# Altium schematic symbol library LT1054IDW.Schlib: 1 symbol
Pins are listed as number, name and electrical type; pins without a type are passive.

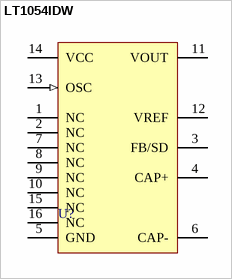
[diagram p0: symbol LT1054IDW]

## LT1054IDW
designator U?
Switched-Capacitor Voltage Converters (Voltage Inverter) With Regulator
pins: 1 NC, 2 NC, 3 FB/SD, 4 CAP+, 5 GND (power), 6 CAP-, 7 NC, 8 NC, 9 NC, 10 NC, 11 VOUT, 12 VREF, 13 OSC (in), 14 VCC, 15 NC, 16 NC